# EAGLE library part 7499511610 (library Wurth Electronics Midcom Inc V1-0)
Package Style: RJ45 Gigabit PoE+ Mounting: THT LED: G/O-Y Shield: 293-0544 Header: 183-0219 Windings Primary: Aux: Secondary: Best pinouts for production vary per application. Please contact Wurth Electronics Midcom, Inc. for assistance with your custom design. Datasheet: 7499511610 <http://katalog.we-online.de/kataloge/eisos/media/pdf/7499511610.pdf> Website: Wurth Electronics Midcom <http://www.we-online.com/midcom> Contact us Wurth Electronics Midcom, Inc. 121 Airport Dr. Watertown, SD 57201 Phone: (605) 886-4385 Fax: (605) 886-4486 E-Mail: midcom@we-online.com
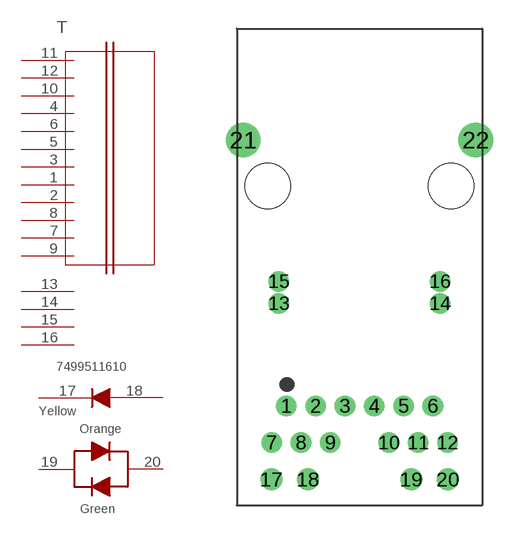
[diagram p174: symbol with the pads of 01LAN_RJ45_GIGABIT_G/O-Y_POE+; footprint 01LAN_RJ45_GIGABIT_G/O-Y_POE+]

Designator prefix T

## 7499511610  [01LAN_RJ45_GIGABIT_G/O-Y_POE+]
1  8  pas
2  9  pas
3  7  pas
4  4  pas
5  6  pas
6  5  pas
7  11  pas
8  10  pas
9  12  pas
10  3  pas
11  1  pas
12  2  pas
13  13  pas
14  14  pas
15  15  pas
16  16  pas
17  17  pas
18  18  pas
19  19  pas
20  20  pas

## Footprint 01LAN_RJ45_GIGABIT_G/O-Y_POE+ (pad centres in mm)
Package Style: RJ45 Gigabit Po Mounting: THT LED: G/O-Y
drill 0.914 round: 1 -5.08,-9.627; 2 -3.048,-9.627; 3 -1.016,-9.627; 4 1.016,-9.627; 5 3.048,-9.627; 6 5.08,-9.627; 7 -6.096,-12.167; 8 -4.064,-12.167; 9 -2.032,-12.167; 10 2.032,-12.167; 11 4.064,-12.167; 12 6.096,-12.167; 13 -5.588,-2.515; 14 5.588,-2.515; 15 -5.588,-0.991; 16 5.588,-0.991
drill 1.016 round: 17 -6.121,-14.707; 18 -3.581,-14.707; 19 3.581,-14.707; 20 6.121,-14.707
drill 1.6 round: 21 -8.065,8.788; 22 8.065,8.788
hole 3.15 at -6.35,5.613
hole 3.15 at 6.35,5.613